# Altium schematic symbol library 曾宪阳SCH库.SCHLIB: 110 symbols
Pins are listed as number, name and electrical type; pins without a type are passive.

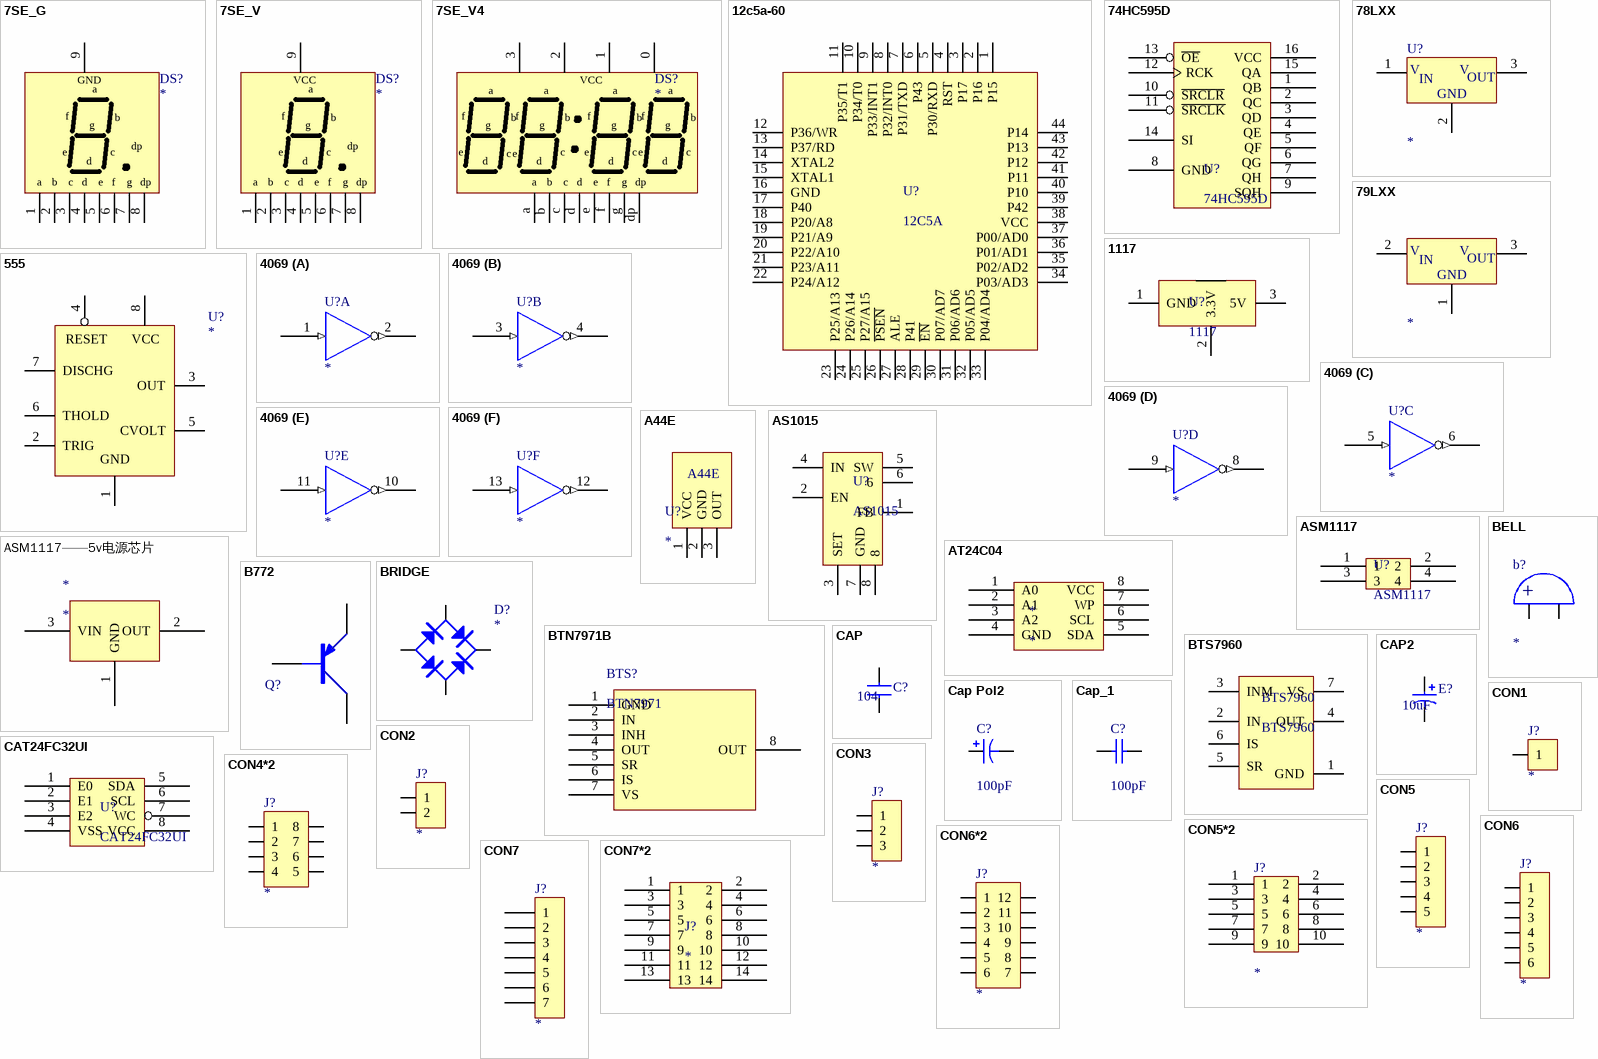
[diagram p0: symbols 7SE_G to CON7*2]

## 7SE_G
designator DS?
Common Anode Seven-Segment Display, Right Hand Decimal
simulation model AMBERCA (SUBCKT)
footprint LED共阴
pins: 1 a, 2 b, 3 c, 4 d, 5 e, 6 f, 7 g, 8 dp, 9 VCC
text: GND

## 7SE_V
designator DS?
Common Anode Seven-Segment Display, Right Hand Decimal
simulation model AMBERCA (SUBCKT)
footprint LED共阳
pins: 1 a, 2 b, 3 c, 4 d, 5 e, 6 f, 7 g, 8 dp, 9 VCC

## 7SE_V4
designator DS?
Common Anode Seven-Segment Display, Right Hand Decimal
simulation model AMBERCA (SUBCKT)
footprint LED4位共阳
pins: 0 VCC, 1, 2, 3, a, b, c, d, dp, e, f, g

## 12c5a-60
designator U?, comment 12C5A
footprint 12C5A60
pins: 1 P15, 2 P16, 3 P17, 4 RST, 5 P30/RXD, 6 P43, 7 P31/TXD, 8 P32/INT0, 9 P33/INT1, 10 P34/T0, 11 P35/T1, 12 P36/WR, 13 P37/RD, 14 XTAL2, 15 XTAL1, 16 GND, 17 P40, 18 P20/A8, 19 P21/A9, 20 P22/A10, 21 P23/A11, 22 P24/A12, 23 P25/A13, 24 P26/A14, 25 P27/A15, 26 ~{PSEN}, 27 ALE, 28 P41, 29 ~{EN}, 30 P07/AD7, 31 P06/AD6, 32 P05/AD5, 33 P04/AD4, 34 P03/AD3, 35 P02/AD2, 36 P01/AD1, 37 P00/AD0, 38 VCC, 39 P42, 40 P10, 41 P11, 42 P12, 43 P13, 44 P14

## 74HC595D
designator U?
footprint 74HC595
pins: 1 QB, 2 QC, 3 QD, 4 QE, 5 QF, 6 QG, 7 QH, 8 GND, 9 SQH, 10 ~{SRCLR}, 11 ~{SRCLK}, 12 RCK, 13 ~{OE}, 14 SI, 15 QA, 16 VCC

## 78LXX
designator U?
3-Terminal Positive Voltage Regulator
simulation model 78L05 (SUBCKT)
footprint TO-220
pins: 1 VIN, 2 GND, 3 VOUT
text: V; IN; OUT

## 79LXX
designator ?
footprint TO-220
pins: 1 GND, 2 VIN, 3 VOUT
text: V; IN; OUT

## 555
designator U?
Timer
simulation model 555 (SUBCKT)
footprint DIP8
pins: 1 GND, 2 TRIG, 3 OUT, 4 RESET, 5 CVOLT, 6 THOLD, 7 DISCHG, 8 VCC

## 1117
designator U?
footprint 1113 (SOT223, 4-Leads, Body 6.7x7.3mm (max), Pitch 2.30mm, IPC Medium Density)
pins: 1 GND, 2 3.3V, 3 5V, 4 3.3V

## 4069
designator U?
footprint DIP14
part A pins: 1 (in), 2 (out), 7 GND (power) hidden to GND, 14 VCC (power) hidden to VCC
part B pins: 3 (in), 4 (out), 7 GND (power) hidden to GND, 14 VCC (power) hidden to VCC
part C pins: 5 (in), 6 (out), 7 GND (power) hidden to GND, 14 VCC (power) hidden to VCC
part D pins: 7 GND (power) hidden to GND, 8 (out), 9 (in), 14 VCC (power) hidden to VCC
part E pins: 7 GND (power) hidden to GND, 10 (out), 11 (in), 14 VCC (power) hidden to VCC
part F pins: 7 GND (power) hidden to GND, 12 (out), 13 (in), 14 VCC (power) hidden to VCC

## A44E
designator U?
footprint TO92
pins: 1 VCC, 2 GND, 3 OUT

## AS1015
designator U?
footprint AS1015 (SOIC, 8-Leads, Body 5.0x4.0mm (max), Pitch 1.27mm, IPC Medium Density)
pins: 1 FB, 2 EN, 3 SET, 4 IN, 5 SW, 6, 7 GND, 8

## ASM1117
designator U?
pins: 1, 2, 3, 4

## ASM1117——5v电源芯片
designator *
footprint AMS1117——5v电源 (SOT223, 4-Leads, Body 6.5x7.3mm (max), Pitch 2.30mm, IPC Medium Density)
pins: 1 GND , 2 OUT, 3 VIN

## AT24C04
designator *
footprint SOP8
pins: 1 A0, 2 A1, 3 A2, 4 GND, 5 SDA, 6 SCL, 7 WP, 8 VCC

## B772
designator Q?  (value not drawn)
footprint TO92
pins: 1, 2, 3

## BELL
designator b?
footprint BELL
pins: 1, 2
1 alternate drawing of the same symbol
text: +

## BRIDGE
designator D?
DIODE BRIDGE
pins: 1 AC, 2 V+, 3 AC, 4 V-

## BTN7971B
designator BTS?, comment BTN7971
footprint BTN7971B (驱动芯片)
pins: 1 GND, 2 IN, 3 INH, 4 OUT, 5 SR, 6 IS, 7 VS, 8 OUT

## BTS7960
designator BTS7960
footprint BTS7960 (D2-PAK, 7-Pads, Body 6.5x9.9mm (max), IPC Medium Density)
pins: 1 GND, 2 IN, 3 INM, 4 OUT, 5 SR, 6 IS, 7 VS

## CAP
designator C?, comment 104
Capacitor
simulation model CAP
footprint RAD0.1
footprint 1000uf电容
pins: 1, 2
1 alternate drawing of the same symbol

## CAP2
designator E?, comment 10uF
Bi-Polar Capacitor
simulation model CAP
footprint RB.1/.3
pins: 1, 2
1 alternate drawing of the same symbol

## Cap Pol2
designator C?  value 100pF
Polarized Capacitor (Axial); Published: 8-Jun-2000; LatestRevisionDate: 17-Jul-2002; LatestRevisionNote: Re-released for DXP Platform.; PackageReference: POLAR0.8; Publisher: Altium Limited
footprint POLAR0.8 (Polarized Capacitor (Axial); 2 Leads)
footprint CAPPA14.05-10.5x6.3 (Capacitor, Axial, Polarised; Body 10.5 x 6.3 mm (LxDia. max), Lead Dia. 0.6 mm (typ))
footprint CAPPA23.6-18.5x8.5 (Capacitor, Axial, Polarised; Body 18.5 x 8.5 mm (LxDia. max), Lead Dia. 0.8 mm (typ))
footprint CAPPA31.6-26.5x12.5 (Capacitor, Axial, Polarised; Body 26.5 x 12.5 mm (LxDia. max), Lead Dia. 0.8 mm (typ))
footprint CAPPA35.6-30.5x18.5 (Capacitor, Axial, Polarised; Body 30.5 x 18.5 mm (LxDia. max), Lead Dia. 0.8 mm (typ))
footprint CAPPA46.1-41x21.5 (Capacitor, Axial, Polarised; Body 41 x 21.5 mm (LxDia. max), Lead Dia. 0.8 mm (typ))
simulation model CAP (Capacitor)
signal-integrity model Cap Pol
pins: 1, 2
1 alternate drawing of the same symbol

## Cap_1
designator C?  value 100pF
Capacitor; Published: 8-Jun-2000; LatestRevisionDate: 17-Jul-2002; LatestRevisionNote: Re-released for DXP Platform.; PackageReference: RAD-0.3; Publisher: Altium Limited
footprint RAD-0.3 (Capacitor; 2 Leads)
footprint VP32-3.2 (Capacitor, Ceramic, Thru-Hole, Dipped Radial; Body 5.1 x 3.2 mm (WxT) Pin Spacing 2.54 mm (typ))
footprint VP45-3.2 (Capacitor, Ceramic, Thru-Hole, Dipped Radial; Body 7.8 x 3.2 mm (WxT) Pin Spacing 5.08 mm (typ))
simulation model CAP (Capacitor)
signal-integrity model Cap
pins: 1, 2

## CAT24FC32UI
designator U?
pins: 1 E0, 2 E1, 3 E2, 4 VSS, 5 SDA, 6 SCL, 7 WC, 8 VCC

## CON1
designator J?
Connector
footprint SIP1
pins: 1

## CON2
designator J?
Connector
footprint 连接端子 (2P)
pins: 1, 2

## CON3
designator J?
Connector
footprint SIP3
pins: 1, 2, 3

## CON4*2
designator J?
Connector
footprint SIP4*2 (Footprint not found)
pins: 1, 2, 3, 4, 5, 6, 7, 8

## CON5
designator J?
Connector
footprint SIP5
pins: 1, 2, 3, 4, 5

## CON5*2
designator J?
Connector
footprint SIP5*2
pins: 1, 2, 3, 4, 5, 6, 7, 8, 9, 10

## CON6
designator J?
Connector
footprint SIP6
pins: 1, 2, 3, 4, 5, 6

## CON6*2
designator J?
Connector
footprint SIP6*2
pins: 1, 2, 3, 4, 5, 6, 7, 8, 9, 10, 11, 12

## CON7
designator J?
Connector
footprint SIP7
pins: 1, 2, 3, 4, 5, 6, 7

## CON7*2
designator J?
footprint SOP7*2
pins: 1, 2, 3, 4, 5, 6, 7, 8, 9, 10, 11, 12, 13, 14

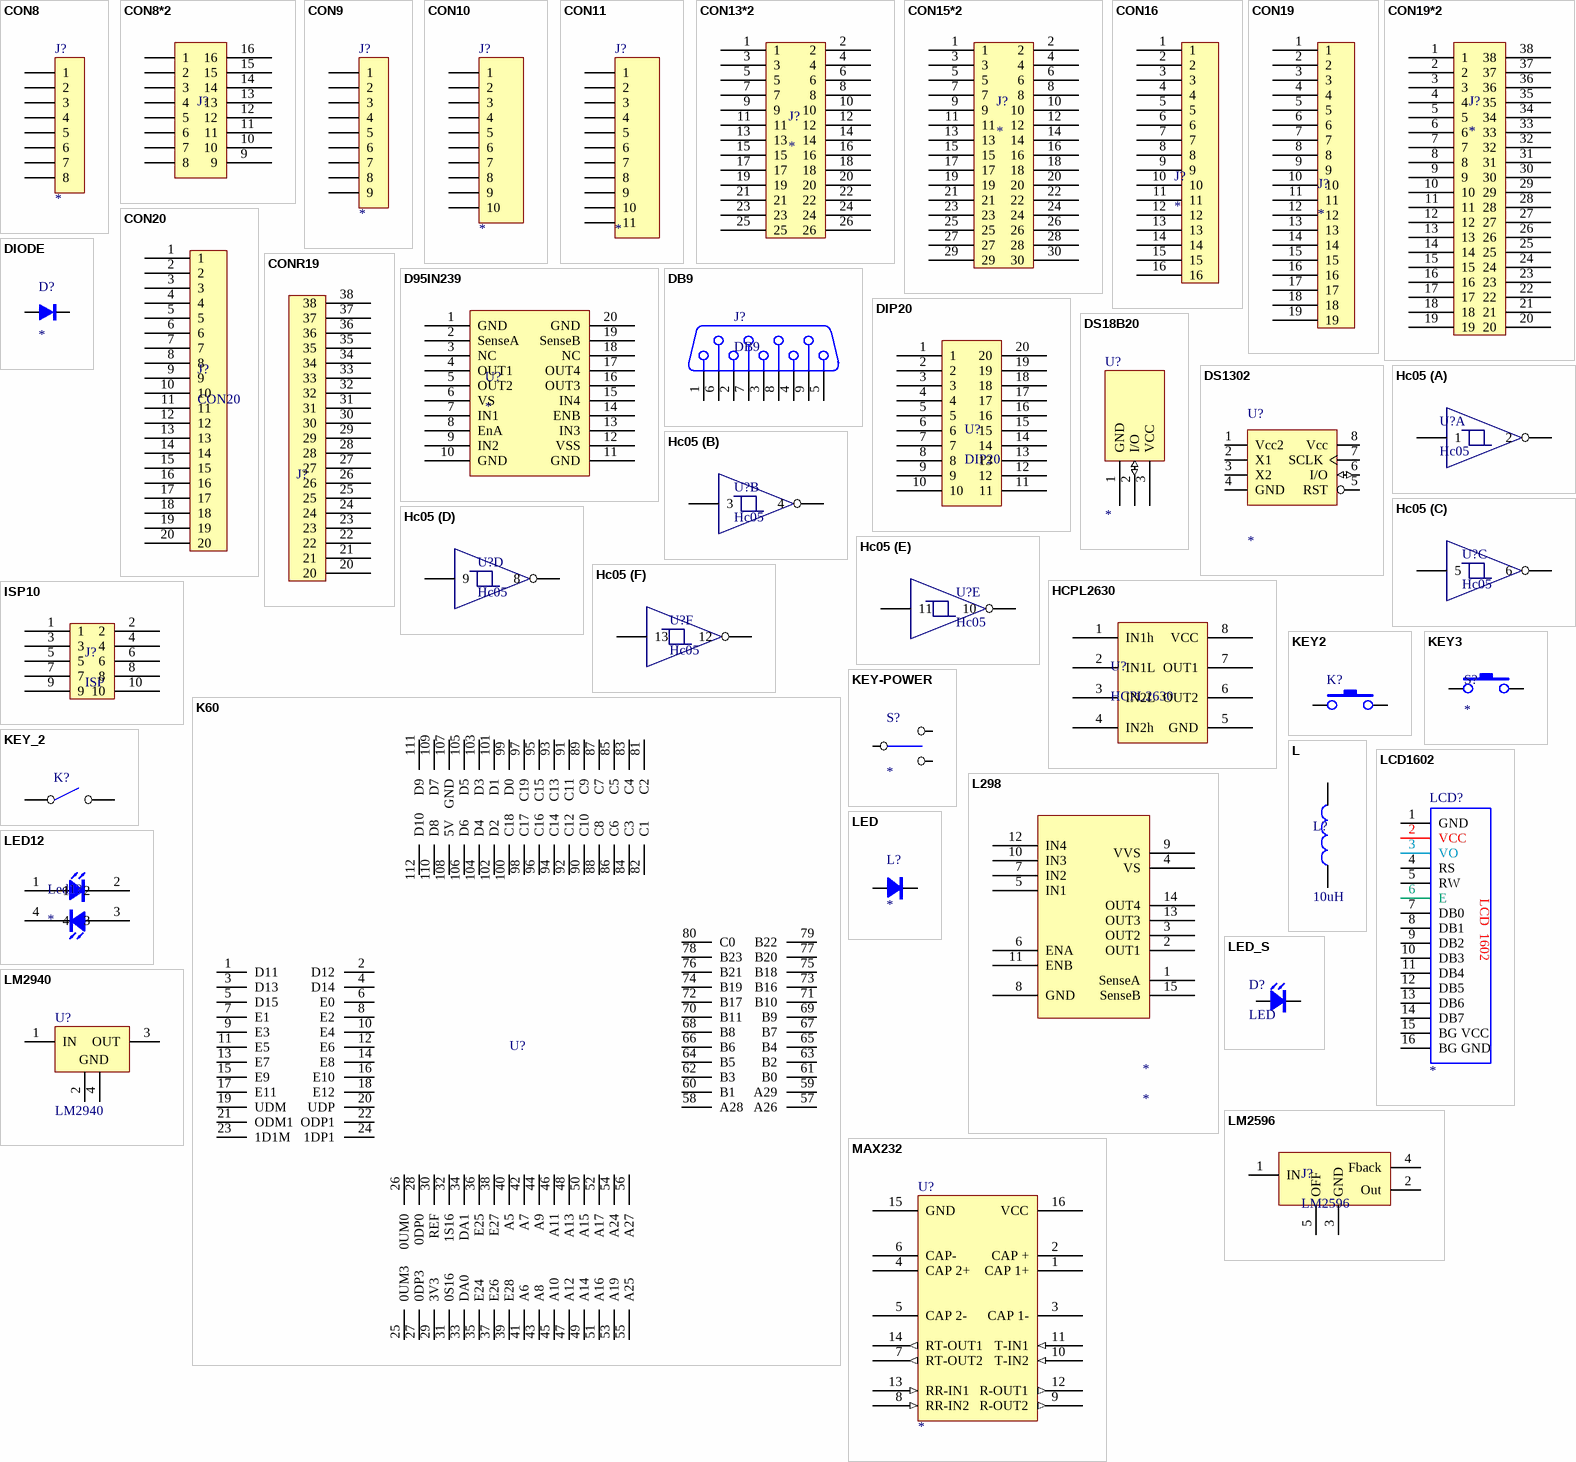
[diagram p1: symbols CON8 to MAX232]

## CON8
designator J?
Connector
footprint SIP8
pins: 1, 2, 3, 4, 5, 6, 7, 8

## CON8*2
designator J?  (value not drawn)
footprint CON8*2
footprint CON8*2
pins: 1, 2, 3, 4, 5, 6, 7, 8, 9, 10, 11, 12, 13, 14, 15, 16

## CON9
designator J?
Connector
footprint SIP9
pins: 1, 2, 3, 4, 5, 6, 7, 8, 9

## CON10
designator J?
Connector
footprint SIP10
pins: 1, 2, 3, 4, 5, 6, 7, 8, 9, 10

## CON11
designator J?
Connector
footprint SIP11
pins: 1, 2, 3, 4, 5, 6, 7, 8, 9, 10, 11

## CON13*2
designator J?
footprint CON13*2
pins: 1, 2, 3, 4, 5, 6, 7, 8, 9, 10, 11, 12, 13, 14, 15, 16, 17, 18, 19, 20, 21, 22, 23, 24, 25, 26

## CON15*2
designator J?
footprint CON15*2
pins: 1, 2, 3, 4, 5, 6, 7, 8, 9, 10, 11, 12, 13, 14, 15, 16, 17, 18, 19, 20, 21, 22, 23, 24, 25, 26, 27, 28, 29, 30

## CON16
designator J?
footprint CON16
pins: 1, 2, 3, 4, 5, 6, 7, 8, 9, 10, 11, 12, 13, 14, 15, 16

## CON19
designator J?
footprint CON19
pins: 1, 2, 3, 4, 5, 6, 7, 8, 9, 10, 11, 12, 13, 14, 15, 16, 17, 18, 19

## CON19*2
designator J?
footprint DIP38 - duplicate
pins: 1, 2, 3, 4, 5, 6, 7, 8, 9, 10, 11, 12, 13, 14, 15, 16, 17, 18, 19, 20, 21, 22, 23, 24, 25, 26, 27, 28, 29, 30, 31, 32, 33, 34, 35, 36, 37, 38

## CON20
designator J?
footprint SIP20
pins: 1, 2, 3, 4, 5, 6, 7, 8, 9, 10, 11, 12, 13, 14, 15, 16, 17, 18, 19, 20

## CONR19
designator J?  (value not drawn)
footprint CONR19
pins: 20, 21, 22, 23, 24, 25, 26, 27, 28, 29, 30, 31, 32, 33, 34, 35, 36, 37, 38

## D95IN239
designator U?
pins: 1 GND, 2 SenseA, 3 NC, 4 OUT1, 5 OUT2, 6 VS, 7 IN1, 8 EnA, 9 IN2, 10 GND, 11 GND, 12 VSS, 13 IN3, 14 ENB, 15 IN4, 16 OUT3, 17 OUT4, 18 NC, 19 SenseB, 20 GND

## DB9
designator J?
footprint DB9
pins: 1, 2, 3, 4, 5, 6, 7, 8, 9

## DIODE
designator D?
DIODE
footprint DIODE0.4
pins: A, K

## DIP20
designator U?
footprint DIP20
pins: 1, 2, 3, 4, 5, 6, 7, 8, 9, 10, 11, 12, 13, 14, 15, 16, 17, 18, 19, 20

## DS18B20
designator U?
footprint TO92
pins: 1 GND (power), 2 I/O (io), 3 VCC (power)

## DS1302
designator U?
footprint DS1302/150
pins: 1 Vcc2, 2 X1, 3 X2, 4 GND, 5 RST, 6 I/O (io), 7 SCLK, 8 Vcc

## Hc05
designator U?
part A pins: 1, 2, 7 (power) hidden to GND, 14 (power) hidden to VCC
part B pins: 3, 4
part C pins: 5, 6
part D pins: 8, 9
part E pins: 10, 11
part F pins: 12, 13

## HCPL2630
designator U?
footprint HCPL2630 - duplicate
pins: 1 IN1h, 2 IN1L, 3 IN2L, 4 IN2h, 5 GND, 6 OUT2, 7 OUT1, 8 VCC

## ISP10
designator J?, comment ISP
footprint ISP10
pins: 1, 2, 3, 4, 5, 6, 7, 8, 9, 10

## K60
designator U?  (value not drawn)
footprint K60
pins: 1 D11, 2 D12, 3 D13, 4 D14, 5 D15, 6 E0, 7 E1, 8 E2, 9 E3, 10 E4, 11 E5, 12 E6, 13 E7, 14 E8, 15 E9, 16 E10, 17 E11, 18 E12, 19 UDM, 20 UDP, 21 ODM1, 22 ODP1, 23 1D1M, 24 1DP1, 25 0UM3, 26 0UM0, 27 0DP3, 28 0DP0, 29 3V3, 30 REF, 31 0S16, 32 1S16, 33 DA0, 34 DA1, 35 E24, 36 E25, 37 E26, 38 E27, 39 E28, 40 A5, 41 A6, 42 A7, 43 A8, 44 A9, 45 A10, 46 A11, 47 A12, 48 A13, 49 A14, 50 A15, 51 A16, 52 A17, 53 A19, 54 A24, 55 A25, 56 A27, 57 A26, 58 A28, 59 A29, 60 B1, 61 B0, 62 B3, 63 B2, 64 B5, 65 B4, 66 B6, 67 B7, 68 B8, 69 B9, 70 B11, 71 B10, 72 B17, 73 B16, 74 B19, 75 B18, 76 B21, 77 B20, 78 B23, 79 B22, 80 C0, 81 C2, 82 C1, 83 C4, 84 C3, 85 C5, 86 C6, 87 C7, 88 C8, 89 C9, 90 C10, 91 C11, 92 C12, 93 C13, 94 C14, 95 C15, 96 C16, 97 C19, 98 C17, 99 D0, 100 C18, 101 D1, 102 D2, 103 D3, 104 D4, 105 D5, 106 D6, 107 GND, 108 5V, 109 D7, 110 D8, 111 D9, 112 D10

## KEY2
designator K?  (value not drawn)
footprint KEY2*3
pins: 1, 2

## KEY3
designator S?
footprint KEY 7*3
pins: 1, 2

## KEY-POWER
designator S?
footprint KEY1*2
pins: 1, 2, 3

## KEY_2
designator K?  (value not drawn)
footprint KEY2*3
pins: 1, 2

## L
designator L?
pins: 1, 2
text: 10uH

## L298
designator *
footprint L298N
pins: 1 SenseA, 2 OUT1, 3 OUT2, 4 VS, 5 IN1, 6 ENA, 7 IN2, 8 GND, 9 VVS, 10 IN3, 11 ENB, 12 IN4, 13 OUT3, 14 OUT4, 15 SenseB

## LCD1602
designator LCD?
footprint 1602LCD (LCD module 16*2 char)
pins: 1 GND, 2 VCC, 3 VO, 4 RS, 5 RW, 6 E, 7 DB0, 8 DB1, 9 DB2, 10 DB3, 11 DB4, 12 DB5, 13 DB6, 14 DB7, 15 BG VCC, 16 BG GND
text: LCD  1602

## LED
designator L?
footprint LED
pins: A, K

## LED12
designator Led1?
footprint LED1
pins: 1, 2, 3, 4, A, A, K, K

## LED_S
designator D?, comment LED
footprint LED
pins: A, K

## LM2596
designator J?
footprint LM2596 (TO, 6-Pads, Body 8.9x10.4mm (max), IPC Medium Density)
pins: 1 IN, 2 Out, 3 GND, 4 Fback, 5 OFF

## LM2940
designator U?
电源芯片; Note: Tab is connected to GND; Published: 15-Apr-2002; DatasheetVersion: Jun-1999; PackageReference: TS3B; Publisher: Altium Limited; PackageDescription: D2-PAK; 3 Leads; Body 14.4 (inc. leads) x 10.4 mm (LxW max); ComponentLink1Description: Manufacturer Link; ComponentLink1URL: http://www.national.com/; ComponentLink2Description: Datasheet; ComponentLink2URL: http://www.national.com/ds.cgi/LM/LM2940.pdf; ComponentLink3Description: URL Link1; ComponentLink3URL: http://www.national.com/pf/LM/LM2940.html
footprint TS3B (D2-PAK; 3 Leads; Body 14.4 (inc. leads) x 10.4 mm (LxW max))
pins: 1 IN (power), 2 GND (power), 3 OUT (power), 4 GND (power)

## MAX232
designator U?
footprint DIP16
pins: 1 CAP 1+, 2 CAP +, 3 CAP 1-, 4 CAP 2+, 5 CAP 2-, 6 CAP-, 7 RT-OUT2 (out), 8 RR-IN2 (in), 9 R-OUT2 (out), 10 T-IN2 (in), 11 T-IN1 (in), 12 R-OUT1 (out), 13 RR-IN1 (in), 14 RT-OUT1 (out), 15 GND (power), 16 VCC (power)

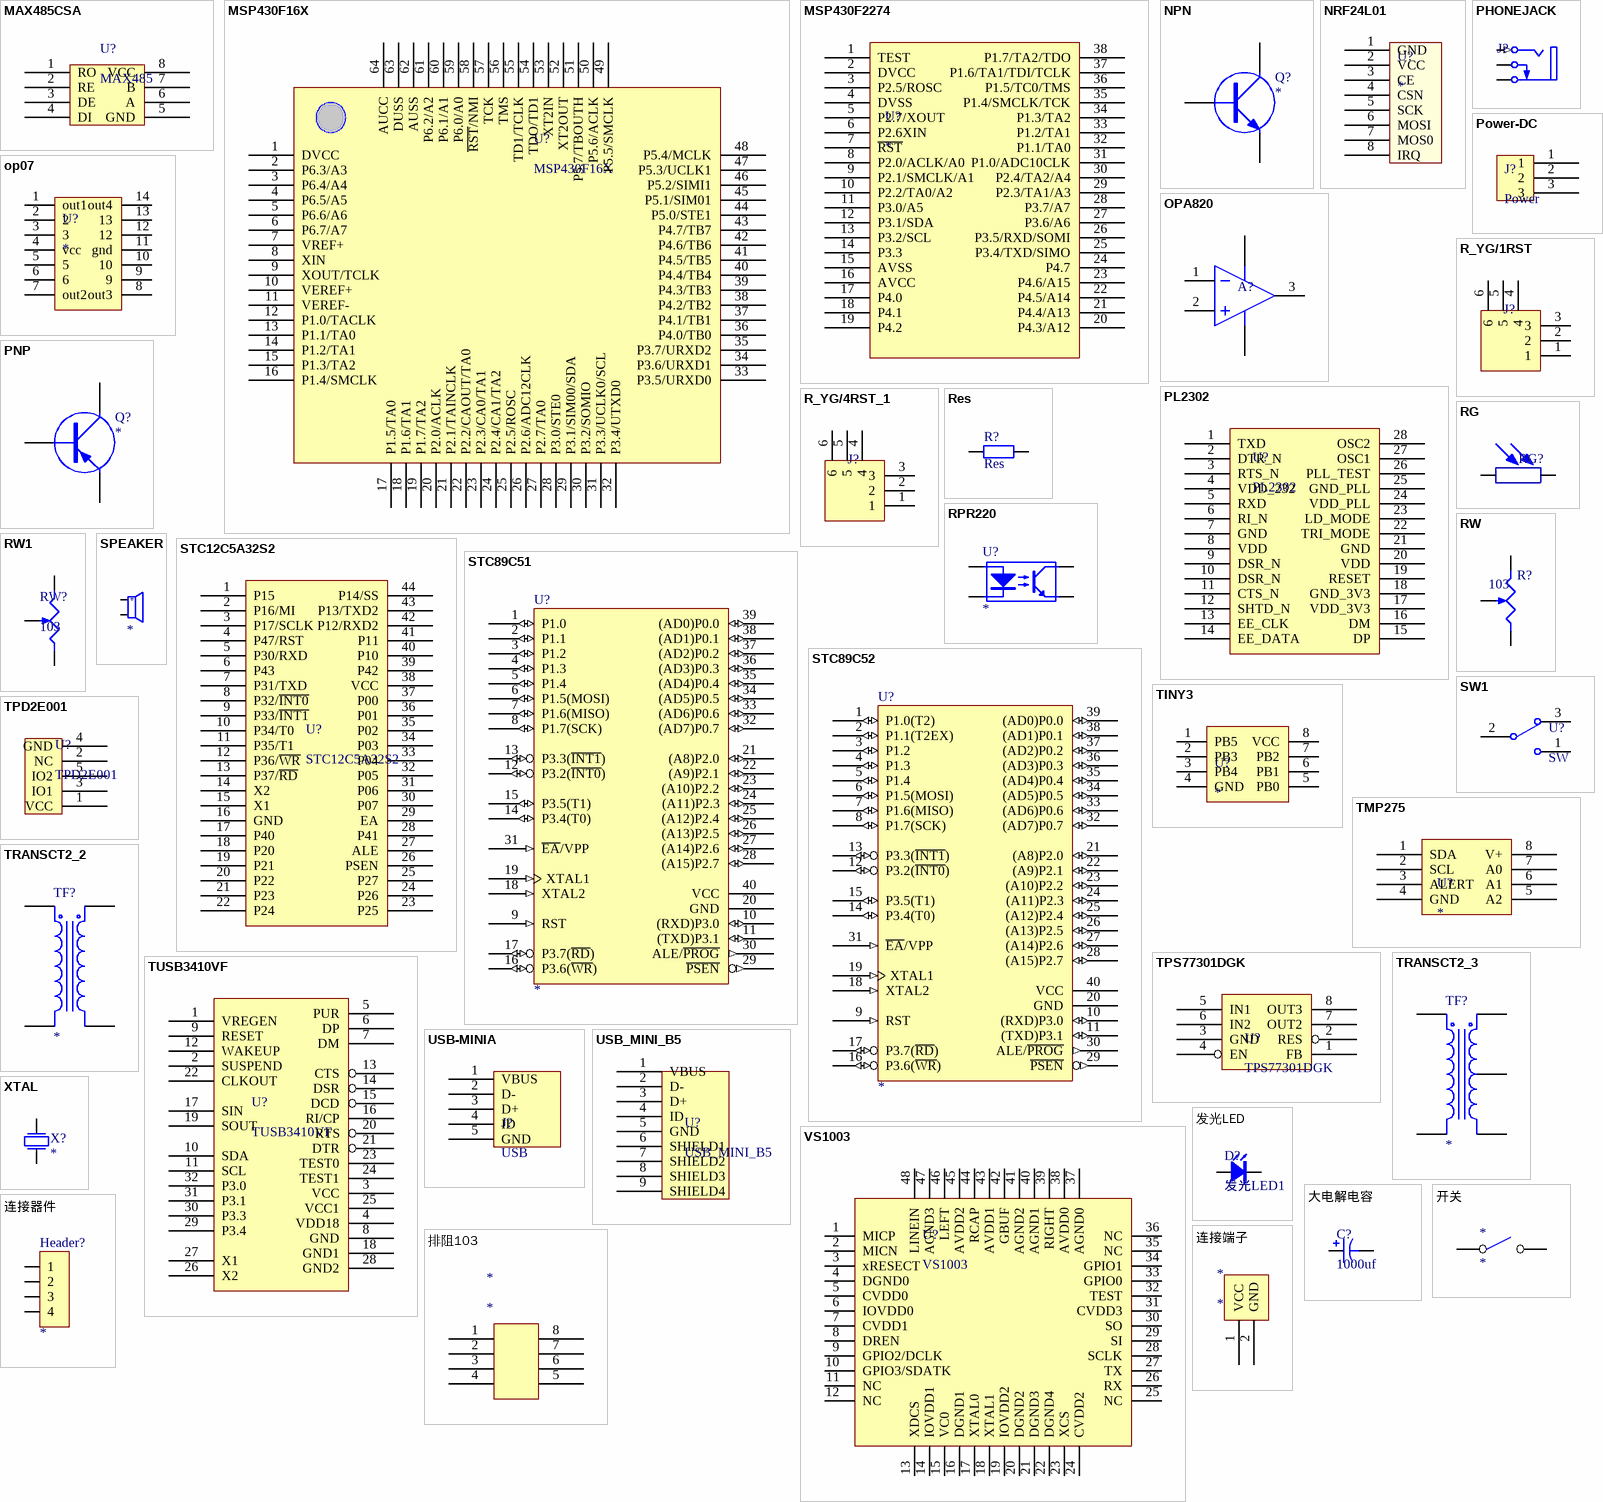
[diagram p2: symbols MAX485CSA to 连接端子]

## MAX485CSA
designator U?, comment MAX485
footprint DIP8
pins: 1 RO, 2 RE, 3 DE, 4 DI, 5 GND, 6 A, 7 B, 8 VCC

## MSP430F16X
designator U?
pins: 1 DVCC, 2 P6.3/A3, 3 P6.4/A4, 4 P6.5/A5, 5 P6.6/A6, 6 P6.7/A7, 7 VREF+, 8 XIN, 9 XOUT/TCLK, 10 VEREF+, 11 VEREF-, 12 P1.0/TACLK, 13 P1.1/TA0, 14 P1.2/TA1, 15 P1.3/TA2, 16 P1.4/SMCLK, 17 P1.5/TA0, 18 P1.6/TA1, 19 P1.7/TA2, 20 P2.0/ACLK, 21 P2.1/TAINCLK, 22 P2.2/CAOUT/TA0, 23 P2.3/CA0/TA1, 24 P2.4/CA1/TA2, 25 P2.5/ROSC, 26 P2.6/ADC12CLK, 27 P2.7/TA0, 28 P3.0/STE0, 29 P3.1/SIM00/SDA, 30 P3.2/SOMIO, 31 P3.3/UCLK0/SCL, 32 P3.4/UTXD0, 33 P3.5/URXD0, 34 P3.6/URXD1, 35 P3.7/URXD2, 36 P4.0/TB0, 37 P4.1/TB1, 38 P4.2/TB2, 39 P4.3/TB3, 40 P4.4/TB4, 41 P4.5/TB5, 42 P4.6/TB6, 43 P4.7/TB7, 44 P5.0/STE1, 45 P5.1/SIM01, 46 P5.2/SIMI1, 47 P5.3/UCLK1, 48 P5.4/MCLK, 49 P5.5/SMCLK, 50 P5.6/ACLK, 51 P5.7/TBOUTH, 52 XT2OUT, 53 XT2IN, 54 TDO/TD1, 55 TD1/TCLK, 56 TMS, 57 TCK, 58 ~{RST}/NMI, 59 P6.0/A0, 60 P6.1/A1, 61 P6.2/A2, 62 AUSS, 63 DUSS, 64 AUCC

## MSP430F2274
designator U?
footprint msp430f2274
pins: 1 TEST, 2 DVCC, 3 P2.5/ROSC, 4 DVSS, 5 P2.7/XOUT, 6 P2.6XIN, 7 ~{RST}, 8 P2.0/ACLK/A0, 9 P2.1/SMCLK/A1, 10 P2.2/TA0/A2, 11 P3.0/A5, 12 P3.1/SDA, 13 P3.2/SCL, 14 P3.3, 15 AVSS, 16 AVCC, 17 P4.0, 18 P4.1, 19 P4.2, 20 P4.3/A12, 21 P4.4/A13, 22 P4.5/A14, 23 P4.6/A15, 24 P4.7, 25 P3.4/TXD/SIMO, 26 P3.5/RXD/SOMI, 27 P3.6/A6, 28 P3.7/A7, 29 P2.3/TA1/A3, 30 P2.4/TA2/A4, 31 P1.0/ADC10CLK, 32 P1.1/TA0, 33 P1.2/TA1, 34 P1.3/TA2, 35 P1.4/SMCLK/TCK, 36 P1.5/TC0/TMS, 37 P1.6/TA1/TDI/TCLK, 38 P1.7/TA2/TDO

## NPN
designator Q?
NPN Transistor
footprint TO92A
pins: B, C, E

## NRF24L01
designator U?
footprint NRF24L01
pins: 1 GND, 2 VCC, 3 CE, 4 CSN, 5 SCK, 6 MOSI, 7 MOS0, 8 IRQ

## op07
designator U?
footprint DIP14
pins: 1 out1, 2, 3, 4 vcc, 5, 6, 7 out2, 8 out3, 9, 10, 11 gnd, 12, 13, 14 out4

## OPA820
designator A?, comment A  (value not drawn)
pins: 1, 2, 3, 4 VCC, 5 VEE

## PHONEJACK
designator J?  (value not drawn)
pins: 1 T (in) "Tip", 2 TN "Tip Normal (Break Contact)", 5 S (power) "Sleeve (Ground)"

## PL2302
designator U?
footprint SOP28
pins: 1 TXD, 2 DTR_N, 3 RTS_N, 4 VDD_232, 5 RXD, 6 RI_N, 7 GND, 8 VDD, 9 DSR_N, 10 DSR_N, 11 CTS_N, 12 SHTD_N, 13 EE_CLK, 14 EE_DATA, 15 DP, 16 DM, 17 VDD_3V3, 18 GND_3V3, 19 RESET, 20 VDD, 21 GND, 22 TRI_MODE, 23 LD_MODE, 24 VDD_PLL, 25 GND_PLL, 26 PLL_TEST, 27 OSC1, 28 OSC2

## PNP
designator Q?
PNP Transistor
footprint TO92A
pins: B, C, E

## Power-DC
designator J?, comment Power
footprint POWER
pins: 1, 2, 3

## R_YG/1RST
designator J?
footprint R/YG
pins: 1, 2, 3, 4, 5, 6

## R_YG/4RST_1
designator J?
footprint R/YG
pins: 1, 2, 3, 4, 5, 6

## Res
designator R?
Resistor; Published: 8-Jun-2000; LatestRevisionDate: 17-Jul-2002; LatestRevisionNote: Re-released for DXP Platform.; PackageReference: AXIAL-0.4; Publisher: Altium Limited
footprint 0805
pins: 1, 2

## RG
designator RG?  (value not drawn)
footprint RG
pins: 1, 2

## RPR220
designator U?
footprint RPR220
pins: 1 LED Anode, 2 LED Cathode, 3 Emitter, 4 Collector

## RW
designator R?, comment 103
Potentiometer
simulation model POT
footprint RW
footprint RW-W
pins: 1 TOP, 2 TAP, 3 BOT
1 alternate drawing of the same symbol

## RW1
designator RW?, comment 103
footprint SIP3
pins: 1 TOP, 2 TAP, 3 BOT

## SPEAKER
designator ?
footprint BELL
pins: 1, 2
text: +

## STC12C5A32S2
designator U?
footprint STC12C5A32S2
pins: 1 P15, 2 P16/MI, 3 P17/SCLK, 4 P47/RST, 5 P30/RXD, 6 P43, 7 P31/TXD, 8 P32/~{INT0}, 9 P33/~{INT1}, 10 P34/T0, 11 P35/T1, 12 P36/~{WR}, 13 P37/~{RD}, 14 X2, 15 X1, 16 GND, 17 P40, 18 P20, 19 P21, 20 P22, 21 P23, 22 P24, 23 P25, 24 P26, 25 P27, 26 PSEN, 27 ALE, 28 P41, 29 EA, 30 P07, 31 P06, 32 P05, 33 P04, 34 P03, 35 P02, 36 P01, 37 P00, 38 VCC, 39 P42, 40 P10, 41 P11, 42 P12/RXD2, 43 P13/TXD2, 44 P14/SS

## STC89C51
designator U?
8-Bit Microcontroller with 4K ISP Flash ROM
footprint DIP40
pins: 1 P1.0 (io), 2 P1.1 (io), 3 P1.2 (io), 4 P1.3 (io), 5 P1.4 (io), 6 P1.5(MOSI) (io), 7 P1.6(MISO) (io), 8 P1.7(SCK) (io), 9 RST (in), 10 (RXD)P3.0 (io), 11 (TXD)P3.1 (io), 12 P3.2(~{INT0}) (io), 13 P3.3(~{INT1}) (io), 14 P3.4(T0) (io), 15 P3.5(T1) (io), 16 P3.6(~{WR}) (io), 17 P3.7(~{RD}) (io), 18 XTAL2 (in), 19 XTAL1 (in), 20 GND (power), 21 (A8)P2.0 (io), 22 (A9)P2.1 (io), 23 (A10)P2.2 (io), 24 (A11)P2.3 (io), 25 (A12)P2.4 (io), 26 (A13)P2.5 (io), 27 (A14)P2.6 (io), 28 (A15)P2.7 (io), 29 ~{PSEN} (out), 30 ALE/~{PROG} (out), 31 ~{EA}/VPP (in), 32 (AD7)P0.7 (io), 33 (AD6)P0.6 (io), 34 (AD5)P0.5 (io), 35 (AD4)P0.4 (io), 36 (AD3)P0.3 (io), 37 (AD2)P0.2 (io), 38 (AD1)P0.1 (io), 39 (AD0)P0.0 (io), 40 VCC (power)
2 alternate drawings of the same symbol

## STC89C52
designator U?
8-Bit Microcontroller with 8K ISP Flash ROM
footprint DIP40
pins: 1 P1.0(T2) (io), 2 P1.1(T2EX) (io), 3 P1.2 (io), 4 P1.3 (io), 5 P1.4 (io), 6 P1.5(MOSI) (io), 7 P1.6(MISO) (io), 8 P1.7(SCK) (io), 9 RST (in), 10 (RXD)P3.0 (io), 11 (TXD)P3.1 (io), 12 P3.2(~{INT0}) (io), 13 P3.3(~{INT1}) (io), 14 P3.4(T0) (io), 15 P3.5(T1) (io), 16 P3.6(~{WR}) (io), 17 P3.7(~{RD}) (io), 18 XTAL2 (in), 19 XTAL1 (in), 20 GND (power), 21 (A8)P2.0 (io), 22 (A9)P2.1 (io), 23 (A10)P2.2 (io), 24 (A11)P2.3 (io), 25 (A12)P2.4 (io), 26 (A13)P2.5 (io), 27 (A14)P2.6 (io), 28 (A15)P2.7 (io), 29 ~{PSEN} (out), 30 ALE/~{PROG} (out), 31 ~{EA}/VPP (in), 32 (AD7)P0.7 (io), 33 (AD6)P0.6 (io), 34 (AD5)P0.5 (io), 35 (AD4)P0.4 (io), 36 (AD3)P0.3 (io), 37 (AD2)P0.2 (io), 38 (AD1)P0.1 (io), 39 (AD0)P0.0 (io), 40 VCC (power)
2 alternate drawings of the same symbol

## SW1
designator U?, comment SW
footprint SW1 (SPDT Subminiature Toggle Switch, Right Angle Mounting, Vertical Actuation)
pins: 1, 2, 3

## TINY3
designator U?
footprint DIP8
pins: 1 PB5, 2 PB3, 3 PB4, 4 GND, 5 PB0, 6 PB1, 7 PB2, 8 VCC

## TMP275
designator U?
footprint TMP275
pins: 1 SDA, 2 SCL, 3 ALERT, 4 GND, 5 A2, 6 A1, 7 A0, 8 V+

## TPD2E001
designator U?
pins: 1 VCC, 2 NC, 3 IO1, 4 GND, 5 IO2

## TPS77301DGK
designator U?
pins: 1 FB, 2 RES, 3 GND, 4 EN, 5 IN1, 6 IN2, 7 OUT2, 8 OUT3

## TRANSCT2_2
designator TF?
Transformer
simulation model 1TO1 (SUBCKT)
pins: 1 Pri+, 2 Pri-, 3 Sec+, 4 Sec-

## TRANSCT2_3
designator TF?
Center-Tapped Transformer
simulation model TRANSCT (SUBCKT)
pins: 1 Pri+, 2 Pri-, 3 Sec+, 4 SecCT, 5 Sec-

## TUSB3410VF
designator U?
pins: 1 VREGEN, 2 SUSPEND, 3 VCC, 4 VDD18, 5 PUR, 6 DP, 7 DM, 8 GND, 9 RESET, 10 SDA, 11 SCL, 12 WAKEUP, 13 CTS, 14 DSR, 15 DCD, 16 RI/CP, 17 SIN, 18 GND1, 19 SOUT, 20 RTS, 21 DTR, 22 CLKOUT, 23 TEST0, 24 TEST1, 25 VCC1, 26 X2, 27 X1, 28 GND2, 29 P3.4, 30 P3.3, 31 P3.1, 32 P3.0

## USB-MINIA
designator J?, comment USB
footprint USB-MINI - duplicate
pins: 1 VBUS, 2 D-, 3 D+, 4 ID, 5 GND

## USB_MINI_B5
designator U?
pins: 1 VBUS, 2 D-, 3 D+, 4 ID, 5 GND, 6 SHIELD1, 7 SHIELD2, 8 SHIELD3, 9 SHIELD4

## VS1003
designator U?
pins: 1 MICP, 2 MICN, 3 xRESECT, 4 DGND0, 5 CVDD0, 6 IOVDD0, 7 CVDD1, 8 DREN, 9 GPIO2/DCLK, 10 GPIO3/SDATK, 11 NC, 12 NC, 13 XDCS, 14 IOVDD1, 15 VC0, 16 DGND1, 17 XTAL0, 18 XTAL1, 19 IOVDD2, 20 DGND2, 21 DGND3, 22 DGND4, 23 XCS, 24 CVDD2, 25 NC, 26 RX, 27 TX, 28 SCLK, 29 SI, 30 SO, 31 CVDD3, 32 TEST, 33 GPIO0, 34 GPIO1, 35 NC, 36 NC, 37 AGND0, 38 AVDD0, 39 RIGHT, 40 AGND1, 41 AGND2, 42 GBUF, 43 AVDD1, 44 RCAP, 45 AVDD2, 46 LEFT, 47 AGND3, 48 LINEIN

## XTAL
designator X?
CRYSTAL
footprint XTAL_3
footprint XTAL_0
footprint Model Name (Footprint not found)
pins: 1 P1, 2 P2

## 发光LED
designator D?, comment 发光LED1
footprint 0805
pins: 1, 2

## 大电解电容
designator C?, comment 1000uf
footprint 1000uf电容
pins: 1, 2

## 开关
designator *
footprint 开关
pins: 1, 2

## 排阻103
designator *
footprint 贴片排阻103
pins: 1, 2 1, 3, 4, 5, 6, 7, 8

## 连接器件
designator Header?
Connector
footprint SIP4
pins: 1, 2, 3, 4

## 连接端子
designator *
footprint 连接端子 (2P)
pins: 1 VCC, 2 GND